# Altium footprint library JST Connectors.PcbLib: 5 footprints
Each footprint in its own frame and in the unit in brackets; x right, y up, seen from the top. Pads: shape width x height; smd on the part's side, far side on the other; paste and mask are expansions set on the pad; w line width, h text height; cw(c..) or ccw(c..) is an arc to the next point about the centre after c.
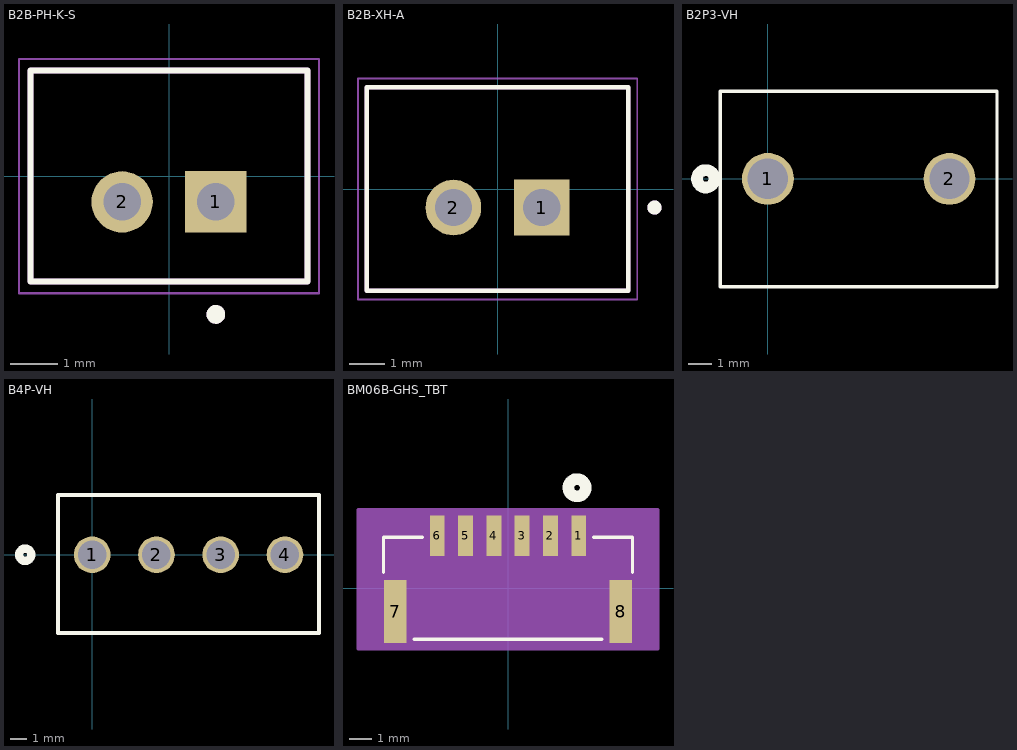
[diagram p0: the footprints below, top view; thin cyan lines are the x and y axes]

## B2B-PH-K-S [mm]
pads (2):
  rect 1.308x1.308 / inner round 1.308 / far side rect 1.308x1.308 hole 0.8: 1(1,-0.55)
  round 1.308 hole 0.8: 2(-1,-0.55)
Top Overlay:
  circle w0.2: c1,-2.95 r0.1
  lines w0.127: -2.95,-2.25 2.95,-2.25 2.95,2.25 -2.95,2.25 -2.95,-2.25
Mechanical 13:
  circle w0.2: c1,-2.95 r0.1
  lines w0.127: -2.95,-2.25 -2.95,2.25 2.95,2.25 2.95,-2.25 -2.95,-2.25
Mechanical 15:
  lines w0.05: -3.2,-2.5 -3.2,2.5 3.2,2.5 3.2,-2.5 -3.2,-2.5
3D body "step_temp.STEP": height 6, standoff -3.4, extent -2.95,-2.25 2.95,2.25

## B2B-XH-A [mm]
pads (2):
  rect 1.575x1.575 / inner round 1.575 / far side rect 1.575x1.575 hole 1.05: 1(1.25,-0.525)
  round 1.575 hole 1.05: 2(-1.25,-0.525)
Top Overlay:
  circle w0.2: c4.44,-0.525 r0.1
  lines w0.127: -3.7,-2.875 -3.7,2.875 3.7,2.875 3.7,-2.875 -3.7,-2.875
Mechanical 13:
  circle w0.2: c4.44,-0.525 r0.1
  lines w0.127: -3.7,-2.875 -3.7,2.875 3.7,2.875 3.7,-2.875 -3.7,-2.875
Mechanical 15:
  lines w0.05: -3.95,-3.125 3.95,-3.125 3.95,3.125 -3.95,3.125 -3.95,-3.125
3D body "B2B-XH-A--3DModel-STEP-56544.STEP": height 7, standoff -3.4, extent -3.827,-2.748 3.573,3.002

## B2P3-VH [mil]
pads (2):
  round 89 / inner round 60 / far side round 89 hole 69 paste-44.5 mask+0: 1(0,0) 2(311.81,0)
Top Overlay:
  circle w20: c-106.59,0 r15
  lines w6: -81.59,-185 393.41,-185 393.41,150 -81.59,150 -81.59,-185
Bottom Overlay:
  circle w20: c-106.59,0 r15
3D body "B2P3-VH--3DModel-STEP-56544.STEP": height 429.13, standoff -145.67, extent -77.67,-183.97 387.69,150.68

## B4P-VH [mil]
pads (4):
  round 89 hole 69 paste-44.5 mask+0: 1(0,0) 2(155.91,0) 3(311.81,0) 4(467.72,0)
Top Overlay:
  circle w20: c-162.64,0 r15
  lines w10: -82.64,-190 550.36,-190 550.36,145 -82.64,145 -82.64,-190
Bottom Overlay:
  circle w20: c-162.64,0 r15
Mechanical 13:
  circle w20: c0,0 r15
3D body "B4P-VH--3DModel-STEP-56544.STEP": height 429.13, standoff -145.67, extent -75.63,-190 545.63,144.65

## BM06B-GHS_TBT [mil]
pads (8):
  rect 26x71 smd paste+0 mask+0: 1(123.03,91.58) 2(73.82,91.58) 3(24.61,91.58) 4(-24.61,91.58) 5(-73.82,91.58) 6(-123.03,91.58)
  rect 39x110 smd paste-55 mask-55: 7(-195.87,-40.31) 8(195.87,-40.31)
Top Overlay:
  circle w20: c120,175 r15
  lines w6: -216.5,27.74 -216.5,88.5 -149.13,88.5 ; -163.27,-88.5 163.27,-88.5 ; 149.13,88.5 216.5,88.5 216.5,27.74
  text ".Designator" at -250,-165 h50
Mechanical 13:
  lines w1: -211.5,-83.5 -211.5,83.5 211.5,83.5 211.5,-83.5 -211.5,-83.5
Mechanical 15:
  region: 260.87,137.08 -260.87,137.08 -260.87,-105.31 260.87,-105.31
  lines w6: -260.87,-105.31 260.87,-105.31 260.87,137.08 -260.87,137.08 -260.87,-105.31
3D body "BM06B-GHS-TBT--3DModel-STEP-56544.STEP": height 159.45, standoff -5.91, extent -211.61,-88.65 211.62,106.23